# Altium footprint library PCBFootprints.PcbLib: 2 footprints
Each footprint in its own frame and in the unit in brackets; x right, y up, seen from the top. Pads: shape width x height; smd on the part's side, far side on the other; paste and mask are expansions set on the pad; w line width, h text height; cw(c..) or ccw(c..) is an arc to the next point about the centre after c.
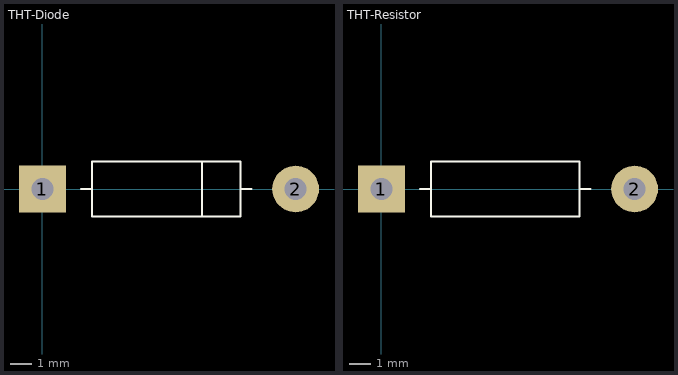
[diagram p0: the footprints below, top view; thin cyan lines are the x and y axes]

## THT-Diode [mil]
pads (2):
  rect 85x85 hole 40: 1(0,0)
  round 85 hole 40: 2(460,0)
Top Overlay:
  lines w3: 70,0 90,0 ; 290,-50 290,50 ; 360,0 380,0 ; 90,-50 90,50 360,50 360,-50 90,-50
3D body "THT-Diode.STEP": height 100, standoff -100, extent -967.5,-100 1407.5,100

## THT-Resistor [mil]
pads (2):
  rect 85x85 hole 40: 1(0,0)
  round 85 hole 40: 2(460,0)
Top Overlay:
  lines w3: 70,0 90,0 ; 360,0 380,0 ; 90,-50 360,-50 360,50 90,50 90,-50
3D body "THT-Resistor.step": height 102.59, standoff -110, extent -12.01,-50 472.01,52.8